# EAGLE library part ATTINY*-8PIN (library IC_Embedded)
Atmel tiny25/45/85, 8-bit AVR Microcontroller with 2/4/8K Bytes In-System Programmable Flash Datasheet <https://ww1.microchip.com/downloads/en/DeviceDoc/Atmel-2586-AVR-8-bit-Microcontroller-ATtiny25-ATtiny45-ATtiny85_Datasheet.pdf>
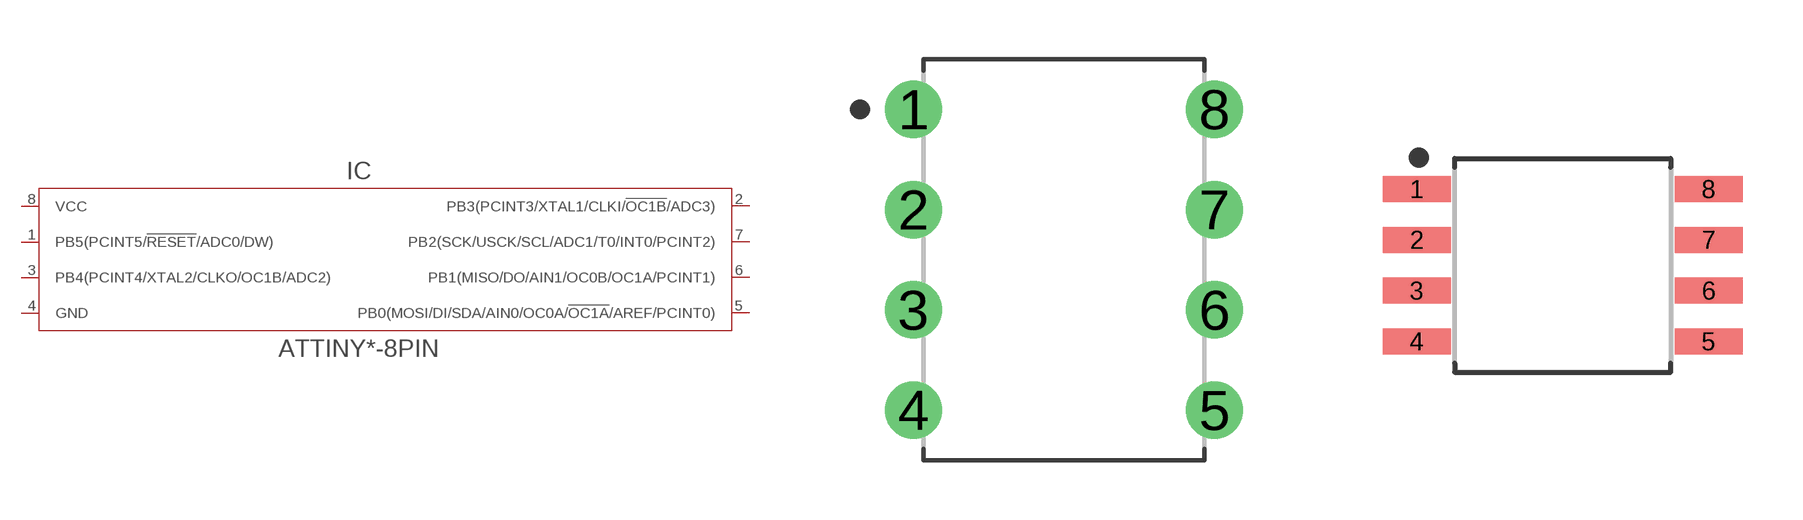
[diagram p34: symbol with the pads of DIP787W55P254L958H533Q8B-8P3; footprints DIP787W55P254L958H533Q8B-8P3, SOIC127P798X216-8N-8S2]

Designator prefix IC

## ATTINY25-20PU-8PIN_PDIP (CATEGORY: IC_Embedded; CORE: AVR; DESCRIPTION: AVR AVR® ATtiny, Functional Safety (FuSa) Microcontroller IC 8-Bit 20MHz 2KB (1K x 16) FLASH 8-PDIP; MANUFACTURER: Microchip Technology; MPN: ATtiny25-20PU; OPERATING_TEMP: -40°C to 85°C; PART_STATUS: Active; ROHS_COMPLIANT: COMPLIANT; SERIES: ATtiny25; SPEED: 20 MHz; SUB-CATEGORY: Microcontroller; TYPE: AVR Microcontroller; VALUE: ATtiny25-20PU), ATTINY25V-10PU-8PIN_PDIP (CATEGORY: IC_Embedded; CORE: AVR; DESCRIPTION: AVR AVR® ATtiny, Functional Safety (FuSa) Microcontroller IC 8-Bit 10MHz 2KB (1K x 16) FLASH 8-PDIP; MANUFACTURER: Microchip Technology; MPN: ATtiny25V-10PU; OPERATING_TEMP: -40°C to 85°C; PART_STATUS: Active; ROHS_COMPLIANT: COMPLIANT; SERIES: ATtiny25; SPEED: 10 MHz; SUB-CATEGORY: Microcontroller; TYPE: AVR Microcontroller; VALUE: ATtiny25V-10PU), ATTINY45-20PU-8PIN_PDIP (CATEGORY: IC_Embedded; CORE: AVR; DESCRIPTION: AVR AVR® ATtiny, Functional Safety (FuSa) Microcontroller IC 8-Bit 20MHz 4KB (2K x 16) FLASH 8-PDIP; MANUFACTURER: Microchip Technology; MPN: ATtiny45-20PU; OPERATING_TEMP: -40°C to 85°C; PART_STATUS: Active; ROHS_COMPLIANT: COMPLIANT; SERIES: ATtiny45; SPEED: 20 MHz; SUB-CATEGORY: Microcontroller; TYPE: AVR Microcontroller; VALUE: ATtiny45-20PU), ATTINY45V-10PU-8PIN_PDIP (CATEGORY: IC_Embedded; CORE: AVR; DESCRIPTION: AVR AVR® ATtiny, Functional Safety (FuSa) Microcontroller IC 8-Bit 10MHz 4KB (2K x 16) FLASH 8-PDIP; MANUFACTURER: Microchip Technology; MPN: ATtiny45V-10PU; OPERATING_TEMP: -40°C to 85°C; PART_STATUS: Active; ROHS_COMPLIANT: COMPLIANT; SERIES: ATtiny45; SPEED: 10 MHz; SUB-CATEGORY: Microcontroller; TYPE: AVR Microcontroller; VALUE: ATtiny45V-10PU), ATTINY85-20PU-8PIN_PDIP (CATEGORY: IC_Embedded; CORE: AVR; DESCRIPTION: AVR AVR® ATtiny, Functional Safety (FuSa) Microcontroller IC 8-Bit 20MHz 8KB (4K x 16) FLASH 8-PDIP; MANUFACTURER: Microchip Technology; MPN: ATtiny85-20PU; OPERATING_TEMP: -40°C to 85°C; PART_STATUS: Active; ROHS_COMPLIANT: COMPLIANT; SERIES: ATtiny85; SPEED: 20 MHz; SUB-CATEGORY: Microcontroller; TYPE: AVR Microcontroller; VALUE: ATtiny85-20PU), ATTINY85V-10PU-8PIN_PDIP (CATEGORY: IC_Embedded; CORE: AVR; DESCRIPTION: AVR AVR® ATtiny, Functional Safety (FuSa) Microcontroller IC 8-Bit 10MHz 8KB (4K x 16) FLASH 8-PDIP; MANUFACTURER: Microchip Technology; MPN: ATtiny85V-10PU; OPERATING_TEMP: -40°C to 85°C; PART_STATUS: Active; ROHS_COMPLIANT: COMPLIANT; SERIES: ATtiny85; SPEED: 10 MHz; SUB-CATEGORY: Microcontroller; TYPE: AVR Microcontroller; VALUE: ATtiny85V-10PU)  [DIP787W55P254L958H533Q8B-8P3]
1  PB5(PCINT5/!RESET!/ADC0/DW)
2  PB3(PCINT3/XTAL1/CLKI/!OC1B!/ADC3)
3  PB4(PCINT4/XTAL2/CLKO/OC1B/ADC2)
4  GND  pwr
5  PB0(MOSI/DI/SDA/AIN0/OC0A/!OC1A!/AREF/PCINT0)
6  PB1(MISO/DO/AIN1/OC0B/OC1A/PCINT1)
7  PB2(SCK/USCK/SCL/ADC1/T0/INT0/PCINT2)
8  VCC  pwr

## ATTINY25-20SH-8PIN_EIAJ (CATEGORY: IC_Embedded; CORE: AVR; DESCRIPTION: AVR series Microcontroller IC 8-Bit 20MHz 2KB (1K x 16) FLASH 8-SOIC; MANUFACTURER: Microchip Technology; MPN: ATtiny25-20SH; OPERATING_TEMP: -40°C to 85°C; PART_STATUS: Active; ROHS_COMPLIANT: COMPLIANT; SERIES: ATtiny25; SPEED: 20 MHz; SUB-CATEGORY: Microcontroller; TYPE: 8 Bit Microcontroller; VALUE: ATtiny25-20SH), ATTINY25-20SHR-8PIN_EIAJ (CATEGORY: IC_Embedded; CORE: AVR; DESCRIPTION: AVR AVR® ATtiny, Functional Safety (FuSa) Microcontroller IC 8-Bit 20MHz 2KB (1K x 16) FLASH 8-SOIC; MANUFACTURER: Microchip Technology; MPN: ATtiny25-20SHR; OPERATING_TEMP: -40°C to 85°C; PART_STATUS: Active; ROHS_COMPLIANT: COMPLIANT; SERIES: ATtiny25; SPEED: 20 MHz; SUB-CATEGORY: Microcontroller; TYPE: 8 Bit Microcontroller; VALUE: ATtiny25-20SHR), ATTINY25-20SN-8PIN_EIAJ (CATEGORY: IC_Embedded; CORE: AVR; DESCRIPTION: AVR series Microcontroller IC 8-Bit 20MHz 2KB (1K x 16) FLASH 8-SOIC; MANUFACTURER: Microchip Technology; MPN: ATtiny25-20SN; OPERATING_TEMP: -40°C to 85°C; PART_STATUS: Active; ROHS_COMPLIANT: COMPLIANT; SERIES: ATtiny25; SPEED: 20 MHz; SUB-CATEGORY: Microcontroller; TYPE: 8 Bit Microcontroller; VALUE: ATtiny25-20SN), ATTINY25-20SNR-8PIN_EIAJ (CATEGORY: IC_Embedded; CORE: AVR; DESCRIPTION: AVR AVR® ATtiny, Functional Safety (FuSa) Microcontroller IC 8-Bit 20MHz 2KB (1K x 16) FLASH 8-SOIC; MANUFACTURER: Microchip Technology; MPN: ATtiny25-20SNR; OPERATING_TEMP: -40°C to 85°C; PART_STATUS: Active; ROHS_COMPLIANT: COMPLIANT; SERIES: ATtiny25; SPEED: 20 MHz; SUB-CATEGORY: Microcontroller; TYPE: 8 Bit Microcontroller; VALUE: ATtiny25-20SNR), ATTINY25-20SU-8PIN_EIAJ (CATEGORY: IC_Embedded; CORE: AVR; DESCRIPTION: AVR series Microcontroller IC 8-Bit 20MHz 2KB (1K x 16) FLASH 8-SOIC; MANUFACTURER: Microchip Technology; MPN: ATtiny25-20SU; OPERATING_TEMP: -40°C to 85°C; PART_STATUS: Active; ROHS_COMPLIANT: COMPLIANT; SERIES: ATtiny25; SPEED: 20 MHz; SUB-CATEGORY: Microcontroller; TYPE: 8 Bit Microcontroller; VALUE: ATtiny25-20SU), ATTINY25-20SUR-8PIN_EIAJ (CATEGORY: IC_Embedded; CORE: AVR; DESCRIPTION: AVR AVR® ATtiny, Functional Safety (FuSa) Microcontroller IC 8-Bit 20MHz 2KB (1K x 16) FLASH 8-SOIC; MANUFACTURER: Microchip Technology; MPN: ATtiny25-20SUR; OPERATING_TEMP: -40°C to 85°C; PART_STATUS: Active; ROHS_COMPLIANT: COMPLIANT; SERIES: ATtiny25; SPEED: 20 MHz; SUB-CATEGORY: Microcontroller; TYPE: 8 Bit Microcontroller; VALUE: ATtiny25-20SUR), ATTINY25V-10SH-8PIN_EIAJ (CATEGORY: IC_Embedded; CORE: AVR; DESCRIPTION: AVR AVR® ATtiny, Functional Safety (FuSa) Microcontroller IC 8-Bit 10MHz 8KB (4K x 16) FLASH 8-SOIC; MANUFACTURER: Microchip Technology; MPN: ATtiny25-10SH; OPERATING_TEMP: -40°C to 85°C; PART_STATUS: Active; ROHS_COMPLIANT: COMPLIANT; SERIES: ATtiny25; SPEED: 10 MHz; SUB-CATEGORY: Microcontroller; TYPE: 8 Bit Microcontroller; VALUE: ATtiny25-10SH), ATTINY25V-10SHR-8PIN_EIAJ (CATEGORY: IC_Embedded; CORE: AVR; DESCRIPTION: AVR AVR® ATtiny, Functional Safety (FuSa) Microcontroller IC 8-Bit 10MHz 2KB (1K x 16) FLASH 8-SOIC; MANUFACTURER: Microchip Technology; MPN: ATtiny25-10SHR; OPERATING_TEMP: -40°C to 85°C; PART_STATUS: Active; ROHS_COMPLIANT: COMPLIANT; SERIES: ATtiny25; SPEED: 10 MHz; SUB-CATEGORY: Microcontroller; TYPE: 8 Bit Microcontroller; VALUE: ATtiny25-10SHR), ATTINY25V-10SU-8PIN_EIAJ (CATEGORY: IC_Embedded; CORE: AVR; DESCRIPTION: AVR series Microcontroller IC 8-Bit 20MHz 2KB (1K x 16) FLASH 8-SOIC; MANUFACTURER: Microchip Technology; MPN: ATtiny25-20SU; OPERATING_TEMP: -40°C to 85°C; PART_STATUS: Active; ROHS_COMPLIANT: COMPLIANT; SERIES: ATtiny25; SPEED: 10 MHz; SUB-CATEGORY: Microcontroller; TYPE: 8 Bit Microcontroller; VALUE: ATtiny25-20SU), ATTINY25V-10SUR-8PIN_EIAJ (CATEGORY: IC_Embedded; CORE: AVR; DESCRIPTION: AVR series Microcontroller IC 8-Bit 10MHz 2KB (1K x 16) FLASH 8-SOIC; MANUFACTURER: Microchip Technology; MPN: ATtiny25-10SUR; OPERATING_TEMP: -40°C to 85°C; PART_STATUS: Active; ROHS_COMPLIANT: COMPLIANT; SERIES: ATtiny25; SPEED: 10 MHz; SUB-CATEGORY: Microcontroller; TYPE: 8 Bit Microcontroller; VALUE: ATtiny25-10SUR), ATTINY45-20SH-8PIN_EIAJ (CATEGORY: IC_Embedded; CORE: AVR; DESCRIPTION: AVR AVR® ATtiny, Functional Safety (FuSa) Microcontroller IC 8-Bit 20MHz 4KB (2K x 16) FLASH 8-SOIC; MANUFACTURER: Microchip Technology; MPN: ATtiny45-20SH; OPERATING_TEMP: -40°C to 85°C; PART_STATUS: Active; ROHS_COMPLIANT: COMPLIANT; SERIES: ATtiny45; SPEED: 20 MHz; SUB-CATEGORY: Microcontroller; TYPE: 8 Bit Microcontroller; VALUE: ATtiny45-20SH), ATTINY45-20SHR-8PIN_EIAJ (CATEGORY: IC_Embedded; CORE: AVR; DESCRIPTION: AVR AVR® ATtiny, Functional Safety (FuSa) Microcontroller IC 8-Bit 20MHz 4KB (2K x 16) FLASH 8-SOIC; MANUFACTURER: Microchip Technology; MPN: ATtiny45-20SHR; OPERATING_TEMP: -40°C to 85°C; PART_STATUS: Active; ROHS_COMPLIANT: COMPLIANT; SERIES: ATtiny45; SPEED: 20 MHz; SUB-CATEGORY: Microcontroller; TYPE: 8 Bit Microcontroller; VALUE: ATtiny45-20SHR), ATTINY45-20SU-8PIN_EIAJ (CATEGORY: IC_Embedded; CORE: AVR; DESCRIPTION: AVR series Microcontroller IC 8-Bit 20MHz 4KB (2K x 16) FLASH 8-SOIC; MANUFACTURER: Microchip Technology; MPN: ATtiny45-20SU; OPERATING_TEMP: -40°C to 85°C; PART_STATUS: Active; ROHS_COMPLIANT: COMPLIANT; SERIES: ATtiny45; SPEED: 20 MHz; SUB-CATEGORY: Microcontroller; TYPE: 8 Bit Microcontroller; VALUE: ATtiny45-20SU), ATTINY45-20SUR-8PIN_EIAJ (CATEGORY: IC_Embedded; CORE: AVR; DESCRIPTION: AVR series Microcontroller IC 8-Bit 20MHz 4KB (2K x 16) FLASH 8-SOIC; MANUFACTURER: Microchip Technology; MPN: ATtiny45-20SUR; OPERATING_TEMP: -40°C to 85°C; PART_STATUS: Active; ROHS_COMPLIANT: COMPLIANT; SERIES: ATtiny45; SPEED: 20 MHz; SUB-CATEGORY: Microcontroller; TYPE: 8 Bit Microcontroller; VALUE: ATtiny45-20SUR), ATTINY45V-10SH-8PIN_EIAJ (CATEGORY: IC_Embedded; CORE: AVR; DESCRIPTION: AVR AVR® ATtiny, Functional Safety (FuSa) Microcontroller IC 8-Bit 10MHz 4KB (2K x 16) FLASH 8-SOIC; MANUFACTURER: Microchip Technology; MPN: ATtiny45-10SH; OPERATING_TEMP: -40°C to 85°C; PART_STATUS: Active; ROHS_COMPLIANT: COMPLIANT; SERIES: ATtiny45; SPEED: 10 MHz; SUB-CATEGORY: Microcontroller; TYPE: 8 Bit Microcontroller; VALUE: ATtiny45-10SH), ATTINY45V-10SHR-8PIN_EIAJ (CATEGORY: IC_Embedded; CORE: AVR; DESCRIPTION: AVR series Microcontroller IC 8-Bit 10MHz 4KB (2K x 16) FLASH 8-SOIC; MANUFACTURER: Microchip Technology; MPN: ATtiny45-10SHR; OPERATING_TEMP: -40°C to 85°C; PART_STATUS: Active; ROHS_COMPLIANT: COMPLIANT; SERIES: ATtiny45; SPEED: 10 MHz; SUB-CATEGORY: Microcontroller; TYPE: 8 Bit Microcontroller; VALUE: ATtiny45-10SHR), ATTINY45V-10SU-8PIN_EIAJ (CATEGORY: IC_Embedded; CORE: AVR; DESCRIPTION: 8-bit Microcontrollers - MCU 4kB Flash 0.256kB EEPROM 6 I/O Pins; MANUFACTURER: Microchip Technology; MPN: ATtiny45-10SU; OPERATING_TEMP: -40°C to 85°C; PART_STATUS: Active; ROHS_COMPLIANT: COMPLIANT; SERIES: ATtiny45; SPEED: 10 MHz; SUB-CATEGORY: Microcontroller; TYPE: 8 Bit Microcontroller; VALUE: ATtiny45-10SU), ATTINY45V-10SUR-8PIN_EIAJ (CATEGORY: IC_Embedded; CORE: AVR; DESCRIPTION: AVR series Microcontroller IC 8-Bit 10MHz 4KB (2K x 16) FLASH 8-SOIC; MANUFACTURER: Microchip Technology; MPN: ATtiny45-10SUR; OPERATING_TEMP: -40°C to 85°C; PART_STATUS: Active; ROHS_COMPLIANT: COMPLIANT; SERIES: ATtiny45; SPEED: 10 MHz; SUB-CATEGORY: Microcontroller; TYPE: 8 Bit Microcontroller; VALUE: ATtiny45-10SUR), ATTINY85-20SH-8PIN_EIAJ (CATEGORY: IC_Embedded; CORE: AVR; DESCRIPTION: AVR series Microcontroller IC 8-Bit 20MHz 8KB (4K x 16) FLASH 8-SOIC; MANUFACTURER: Microchip Technology; MPN: ATtiny85-20SH; OPERATING_TEMP: -40°C to 85°C; PART_STATUS: Active; ROHS_COMPLIANT: COMPLIANT; SERIES: ATtiny85; SPEED: 20 MHz; SUB-CATEGORY: Microcontroller; TYPE: 8 Bit Microcontroller; VALUE: ATtiny85-20SH), ATTINY85-20SHR-8PIN_EIAJ (CATEGORY: IC_Embedded; CORE: AVR; DESCRIPTION: AVR series Microcontroller IC 8-Bit 20MHz 8KB (4K x 16) FLASH 8-SOIC; MANUFACTURER: Microchip Technology; MPN: ATtiny85-20SHR; OPERATING_TEMP: -40°C to 85°C; PART_STATUS: Active; ROHS_COMPLIANT: COMPLIANT; SERIES: ATtiny85; SPEED: 20 MHz; SUB-CATEGORY: Microcontroller; TYPE: 8 Bit Microcontroller; VALUE: ATtiny85-20SHR), ATTINY85-20SU-8PIN_EIAJ (CATEGORY: IC_Embedded; CORE: AVR; DESCRIPTION: AVR AVR® ATtiny, Functional Safety (FuSa) Microcontroller IC 8-Bit 20MHz 8KB (4K x 16) FLASH 8-SOIC; MANUFACTURER: Microchip Technology; MPN: ATtiny85-20SU; OPERATING_TEMP: -40°C to 85°C; PART_STATUS: Active; ROHS_COMPLIANT: COMPLIANT; SERIES: ATtiny85; SPEED: 20 MHz; SUB-CATEGORY: Microcontroller; TYPE: 8 Bit Microcontroller; VALUE: ATtiny85-20SU), ATTINY85-20SUR-8PIN_EIAJ (CATEGORY: IC_Embedded; CORE: AVR; DESCRIPTION: AVR series Microcontroller IC 8-Bit 20MHz 8KB (4K x 16) FLASH 8-SOIC; MANUFACTURER: Microchip Technology; MPN: ATtiny85-20SUR; OPERATING_TEMP: -40°C to 85°C; PART_STATUS: Active; ROHS_COMPLIANT: COMPLIANT; SERIES: ATtiny85; SPEED: 20 MHz; SUB-CATEGORY: Microcontroller; TYPE: 8 Bit Microcontroller; VALUE: ATtiny85-20SUR), ATTINY85V-10SH-8PIN_EIAJ (CATEGORY: IC_Embedded; CORE: AVR; DESCRIPTION: AVR AVR® ATtiny, Functional Safety (FuSa) Microcontroller IC 8-Bit 10MHz 8KB (4K x 16) FLASH 8-SOIC; MANUFACTURER: Microchip Technology; MPN: ATtiny85V-10SH; OPERATING_TEMP: -40°C to 85°C; PART_STATUS: Active; ROHS_COMPLIANT: COMPLIANT; SERIES: ATtiny85; SPEED: 10 MHz; SUB-CATEGORY: Microcontroller; TYPE: 8 Bit Microcontroller; VALUE: ATtiny85V-10SH), ATTINY85V-10SHR-8PIN_EIAJ (CATEGORY: IC_Embedded; CORE: AVR; DESCRIPTION: AVR series Microcontroller IC 8-Bit 10MHz 8KB (4K x 16) FLASH 8-SOIC; MANUFACTURER: Microchip Technology; MPN: ATtiny85V-10SHR; OPERATING_TEMP: -40°C to 85°C; PART_STATUS: Active; ROHS_COMPLIANT: COMPLIANT; SERIES: ATtiny85; SPEED: 10 MHz; SUB-CATEGORY: Microcontroller; TYPE: 8 Bit Microcontroller; VALUE: ATtiny85V-10SHR), ATTINY85V-10SU-8PIN_EIAJ (CATEGORY: IC_Embedded; CORE: AVR; DESCRIPTION: AVR series Microcontroller IC 8-Bit 10MHz 8KB (4K x 16) FLASH 8-SOIC; MANUFACTURER: Microchip Technology; MPN: ATtiny85V-10SU; OPERATING_TEMP: -40°C to 85°C; PART_STATUS: Active; ROHS_COMPLIANT: COMPLIANT; SERIES: ATtiny85; SPEED: 10 MHz; SUB-CATEGORY: Microcontroller; TYPE: 8 Bit Microcontroller; VALUE: ATtiny85V-10SU), ATTINY85V-10SUR-8PIN_EIAJ (CATEGORY: IC_Embedded; CORE: AVR; DESCRIPTION: AVR AVR® ATtiny, Functional Safety (FuSa) Microcontroller IC 8-Bit 10MHz 8KB (4K x 16) FLASH 8-SOIC; MANUFACTURER: Microchip Technology; MPN: ATtiny85V-10SUR; OPERATING_TEMP: -40°C to 85°C; PART_STATUS: Active; ROHS_COMPLIANT: COMPLIANT; SERIES: ATtiny85; SPEED: 10 MHz; SUB-CATEGORY: Microcontroller; TYPE: 8 Bit Microcontroller; VALUE: ATtiny85V-10SUR)  [SOIC127P798X216-8N-8S2]
Pads as for DIP787W55P254L958H533Q8B-8P3

## ATTINY25-20SSH-8PIN_SOIC (CATEGORY: IC_Embedded; CORE: AVR; DESCRIPTION: AVR AVR® ATtiny, Functional Safety (FuSa) Microcontroller IC 8-Bit 20MHz 2KB (1K x 16) FLASH 8-SOIC; MANUFACTURER: Microchip Technology; MPN: ATtiny25-20SSH; OPERATING_TEMP: -40°C to 85°C; PART_STATUS: Active; ROHS_COMPLIANT: COMPLIANT; SERIES: ATtiny25; SPEED: 20 MHz; SUB-CATEGORY: Microcontroller; TYPE: 8 bit Microcontroller; VALUE: ATtiny25-20SSH), ATTINY25-20SSHR-8PIN_SOIC (CATEGORY: IC_Embedded; CORE: AVR; DESCRIPTION: AVR series Microcontroller IC 8-Bit 20MHz 2KB (1K x 16) FLASH 8-SOIC; MANUFACTURER: Microchip Technology; MPN: ATtiny25-20SSHR; OPERATING_TEMP: -40°C to 85°C; PART_STATUS: Active; ROHS_COMPLIANT: COMPLIANT; SERIES: ATtiny25; SPEED: 20 MHz; SUB-CATEGORY: Microcontroller; TYPE: 8 bit Microcontroller; VALUE: ATtiny25-20SSHR), ATTINY25-20SSN-8PIN_SOIC (CATEGORY: IC_Embedded; CORE: AVR; DESCRIPTION: AVR series Microcontroller IC 8-Bit 20MHz 2KB (1K x 16) FLASH 8-SOIC; MANUFACTURER: Microchip Technology; MPN: ATtiny25-20SSN; OPERATING_TEMP: -40°C to 85°C; PART_STATUS: Active; ROHS_COMPLIANT: COMPLIANT; SERIES: ATtiny25; SPEED: 20 MHz; SUB-CATEGORY: Microcontroller; TYPE: 8 bit Microcontroller; VALUE: ATtiny25-20SSN), ATTINY25-20SSNR-8PIN_SOIC (CATEGORY: IC_Embedded; CORE: AVR; DESCRIPTION: AVR series Microcontroller IC 8-Bit 20MHz 2KB (1K x 16) FLASH 8-SOIC; MANUFACTURER: Microchip Technology; MPN: ATtiny25-20SSNR; OPERATING_TEMP: -40°C to 85°C; PART_STATUS: Active; ROHS_COMPLIANT: COMPLIANT; SERIES: ATtiny25; SPEED: 20 MHz; SUB-CATEGORY: Microcontroller; TYPE: 8 bit Microcontroller; VALUE: ATtiny25-20SSNR), ATTINY25-20SSU-8PIN_SOIC (CATEGORY: IC_Embedded; CORE: AVR; DESCRIPTION: AVR AVR® ATtiny, Functional Safety (FuSa) Microcontroller IC 8-Bit 20MHz 2KB (1K x 16) FLASH 8-SOIC; MANUFACTURER: Microchip Technology; MPN: ATtiny25V-20SSU; OPERATING_TEMP: -40°C to 85°C; PART_STATUS: Active; ROHS_COMPLIANT: COMPLIANT; SERIES: ATtiny25; SPEED: 20 MHz; SUB-CATEGORY: Microcontroller; TYPE: 8 bit Microcontroller; VALUE: ATtiny25V-20SSU), ATTINY25-20SSUR-8PIN_SOIC (CATEGORY: IC_Embedded; CORE: AVR; DESCRIPTION: AVR AVR® ATtiny, Functional Safety (FuSa) Microcontroller IC 8-Bit 20MHz 2KB (1K x 16) FLASH 8-SOIC; MANUFACTURER: Microchip Technology; MPN: ATtiny25V-20SSUR; OPERATING_TEMP: -40°C to 85°C; PART_STATUS: Active; ROHS_COMPLIANT: COMPLIANT; SERIES: ATtiny25; SPEED: 20 MHz; SUB-CATEGORY: Microcontroller; TYPE: 8 bit Microcontroller; VALUE: ATtiny25V-20SSUR), ATTINY25V-10SSH-8PIN_SOIC (CATEGORY: IC_Embedded; CORE: AVR; DESCRIPTION: AVR AVR® ATtiny, Functional Safety (FuSa) Microcontroller IC 8-Bit 10MHz 2KB (1K x 16) FLASH 8-SOIC; MANUFACTURER: Microchip Technology; MPN: ATtiny25V-10SSH; OPERATING_TEMP: -40°C to 85°C; PART_STATUS: Active; ROHS_COMPLIANT: COMPLIANT; SERIES: ATtiny25; SPEED: 10 MHz; SUB-CATEGORY: Microcontroller; TYPE: 8 bit Microcontroller; VALUE: ATtiny25V-10SSH), ATTINY25V-10SSHR-8PIN_SOIC (CATEGORY: IC_Embedded; CORE: AVR; DESCRIPTION: AVR series Microcontroller IC 8-Bit 10MHz 2KB (1K x 16) FLASH 8-SOIC; MANUFACTURER: Microchip Technology; MPN: ATtiny25V-10SSHR; OPERATING_TEMP: -40°C to 85°C; PART_STATUS: Active; ROHS_COMPLIANT: COMPLIANT; SERIES: ATtiny25; SPEED: 10 MHz; SUB-CATEGORY: Microcontroller; TYPE: 8 bit Microcontroller; VALUE: ATtiny25V-10SSHR), ATTINY25V-10SSN-8PIN_SOIC (CATEGORY: IC_Embedded; CORE: AVR; DESCRIPTION: AVR AVR® ATtiny, Functional Safety (FuSa) Microcontroller IC 8-Bit 10MHz 2KB (1K x 16) FLASH 8-SOIC; MANUFACTURER: Microchip Technology; MPN: ATtiny25V-10SSN; OPERATING_TEMP: -40°C to 85°C; PART_STATUS: Active; ROHS_COMPLIANT: COMPLIANT; SERIES: ATtiny25; SPEED: 10 MHz; SUB-CATEGORY: Microcontroller; TYPE: 8 bit Microcontroller; VALUE: ATtiny25V-10SSN), ATTINY25V-10SSNR-8PIN_SOIC (CATEGORY: IC_Embedded; CORE: AVR; DESCRIPTION: AVR series Microcontroller IC 8-Bit 10MHz 2KB (1K x 16) FLASH 8-SOIC; MANUFACTURER: Microchip Technology; MPN: ATtiny25V-10SSNR; OPERATING_TEMP: -40°C to 85°C; PART_STATUS: Active; ROHS_COMPLIANT: COMPLIANT; SERIES: ATtiny25; SPEED: 10 MHz; SUB-CATEGORY: Microcontroller; TYPE: 8 bit Microcontroller; VALUE: ATtiny25V-10SSNR), ATTINY25V-10SSU-8PIN_SOIC (CATEGORY: IC_Embedded; CORE: AVR; DESCRIPTION: AVR AVR® ATtiny, Functional Safety (FuSa) Microcontroller IC 8-Bit 10MHz 2KB (1K x 16) FLASH 8-SOIC; MANUFACTURER: Microchip Technology; MPN: ATtiny25V-10SSU; OPERATING_TEMP: -40°C to 85°C; PART_STATUS: Active; ROHS_COMPLIANT: COMPLIANT; SERIES: ATtiny25; SPEED: 10 MHz; SUB-CATEGORY: Microcontroller; TYPE: 8 bit Microcontroller; VALUE: ATtiny25V-10SSU), ATTINY25V-10SSUR-8PIN_SOIC (CATEGORY: IC_Embedded; CORE: AVR; DESCRIPTION: AVR AVR® ATtiny, Functional Safety (FuSa) Microcontroller IC 8-Bit 10MHz 2KB (1K x 16) FLASH 8-SOIC; MANUFACTURER: Microchip Technology; MPN: ATtiny25V-10SSUR; OPERATING_TEMP: -40°C to 85°C; PART_STATUS: Active; ROHS_COMPLIANT: COMPLIANT; SERIES: ATtiny25; SPEED: 10 MHz; SUB-CATEGORY: Microcontroller; TYPE: 8 bit Microcontroller; VALUE: ATtiny25V-10SSUR)  [SOIC127P600X175-8N]
Pads as for DIP787W55P254L958H533Q8B-8P3

## ATTINY45-20XU-8PIN_TSSOP (CATEGORY: IC_Embedded; CORE: AVR; DESCRIPTION: AVR AVR® ATtiny, Functional Safety (FuSa) Microcontroller IC 8-Bit 20MHz 4KB (2K x 16) FLASH 8-TSSOP; MANUFACTURER: Microchip Technology; MPN: ATtiny45-20XU; OPERATING_TEMP: -40°C to 85°C; ROHS_COMPLIANT: COMPLIANT; SERIES: ATtiny45; SPEED: 20 MHz; SUB-CATEGORY: Microcontroller; TYPE: 8 Bit Microcontroller; VALUE: ATtiny45-20XU), ATTINY45-20XUR-8PIN_TSSOP (CATEGORY: IC_Embedded; CORE: AVR; DESCRIPTION: AVR series Microcontroller IC 8-Bit 20MHz 4KB (2K x 16) FLASH 8-TSSOP; MANUFACTURER: Microchip Technology; MPN: ATtiny45-20XUR; OPERATING_TEMP: -40°C to 85°C; ROHS_COMPLIANT: COMPLIANT; SERIES: ATtiny45; SPEED: 20 MHz; SUB-CATEGORY: Microcontroller; TYPE: 8 Bit Microcontroller; VALUE: ATtiny45-20XUR), ATTINY45V-10XU-8PIN_TSSOP (CATEGORY: IC_Embedded; CORE: AVR; DESCRIPTION: 8 Bit MCU, AVR Family ATtiny45 Series Microcontrollers, 10 MHz, 4 KB, 256 Byte, 8 Pins, TSSOP; MANUFACTURER: Microchip Technology; MPN: ATtiny45-10XU; OPERATING_TEMP: -40°C to 85°C; ROHS_COMPLIANT: COMPLIANT; SERIES: ATtiny45; SPEED: 10 MHz; SUB-CATEGORY: Microcontroller; TYPE: 8 Bit Microcontroller; VALUE: ATtiny45-10XU), ATTINY45V-10XUR-8PIN_TSSOP (CATEGORY: IC_Embedded; CORE: AVR; DESCRIPTION: AVR AVR® ATtiny, Functional Safety (FuSa) Microcontroller IC 8-Bit 10MHz 4KB (2K x 16) FLASH 8-TSSOP; MANUFACTURER: Microchip Technology; MPN: ATtiny45-10XUR; OPERATING_TEMP: -40°C to 85°C; ROHS_COMPLIANT: COMPLIANT; SERIES: ATtiny45; SPEED: 10 MHz; SUB-CATEGORY: Microcontroller; TYPE: 8 Bit Microcontroller; VALUE: ATtiny45-10XUR)  [SOP65P640X120-8N]
Pads as for DIP787W55P254L958H533Q8B-8P3

## Footprint DIP787W55P254L958H533Q8B-8P3 (pad centres in mm)
8-DIP, 2.54 mm (0.10 in) pitch, 7.87 mm (0.31 in) span, 9.59 X 6.61 X 5.33 mm body 8-pin DIP package with 2.54 mm (0.10 in) pitch, 7.87 mm (0.31 in) span with body size 9.59 X 6.61 X 5.33 mm
drill 0.852 pad 1.452: 1 -3.81,3.81; 2 -3.81,1.27; 3 -3.81,-1.27; 4 -3.81,-3.81; 5 3.81,-3.81; 6 3.81,-1.27; 7 3.81,1.27; 8 3.81,3.81

## Footprint SOIC127P798X216-8N-8S2 (pad centres in mm)
8-SOIC, 1.27 mm pitch, 7.98 mm span, 5.24 X 5.29 X 2.16 mm body 8-pin SOIC package with 1.27 mm pitch, 7.98 mm span with body size 5.24 X 5.29 X 2.16 mm
smd 1.7 x 0.65: 1 -3.65,1.905; 2 -3.65,0.635; 3 -3.65,-0.635; 4 -3.65,-1.905; 5 3.65,-1.905; 6 3.65,-0.635; 7 3.65,0.635; 8 3.65,1.905

## Footprint SOIC127P600X175-8N (pad centres in mm)
8-SOIC, 1.27 mm pitch, 6.00 mm span, 4.89 X 3.90 X 1.75 mm body 8-pin SOIC package with 1.27 mm pitch, 6.00 mm span with body size 4.89 X 3.90 X 1.75 mm
smd 1.55 x 0.6: 1 -2.7,1.905; 2 -2.7,0.635; 3 -2.7,-0.635; 4 -2.7,-1.905; 5 2.7,-1.905; 6 2.7,-0.635; 7 2.7,0.635; 8 2.7,1.905

## Footprint SOP65P640X120-8N (pad centres in mm)
8-SOP, 0.65 mm pitch, 6.40 mm span, 3.00 X 4.40 X 1.20 mm body 8-pin SOP package with 0.65 mm pitch, 6.40 mm span with body size 3.00 X 4.40 X 1.20 mm
smd 1.45 x 0.45: 1 -2.95,0.975; 2 -2.95,0.325; 3 -2.95,-0.325; 4 -2.95,-0.975; 5 2.95,-0.975; 6 2.95,-0.325; 7 2.95,0.325; 8 2.95,0.975